# EAGLE library part HEADER-8P (library Connector)
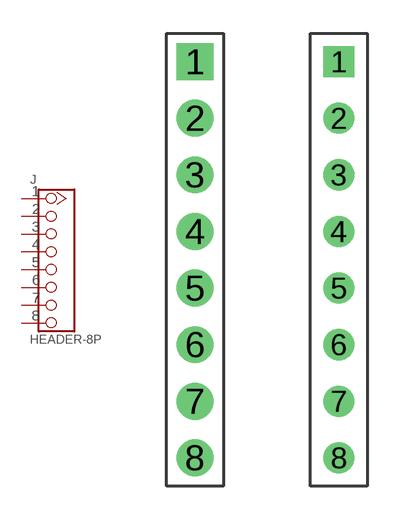
[diagram p14: symbol with the pads of 8P-2.54-DIP; footprints 8P-2.54-DIP, 8P-2.54-DIP/55-35]

Designator prefix J

## HEADER-8P-2.54-DIP  [8P-2.54-DIP]
1  1
2  2
3  3
4  4
5  5
6  6
7  7
8  8

## HEADER-8P-55/35MIL  [8P-2.54-DIP/55-35]
Pads as for 8P-2.54-DIP

## HEADER-8P-80/40MIL  [8P-2.54-DIP-80/40MIL]
Pads as for 8P-2.54-DIP

## HEADER-8P-2.54-SMD  [8P-2.54-SMD]
Pads as for 8P-2.54-DIP

## HEADER-8P-F90  [8P-2.54-FEMALE-90-DIP]
Pads as for 8P-2.54-DIP

## HEADER-8P-M90  [8P-2.54-MALE-90-DIP]
Pads as for 8P-2.54-DIP

## Footprint 8P-2.54-DIP (pad centres in mm)
drill 0.889 pad 1.651 square: 1 0,8.89
drill 0.889 pad 1.651 round: 2 0,6.35; 3 0,3.81; 4 0,1.27; 5 0,-1.27; 6 0,-3.81; 7 0,-6.35; 8 0,-8.89

## Footprint 8P-2.54-DIP/55-35 (pad centres in mm)
drill 0.889 pad 1.397 square: 1 0,8.89
drill 0.889 pad 1.397 round: 2 0,6.35; 3 0,3.81; 4 0,1.27; 5 0,-1.27; 6 0,-3.81; 7 0,-6.35; 8 0,-8.89

## Footprint 8P-2.54-DIP-80/40MIL (pad centres in mm)
drill 1.016 pad 2.032 square: 1 0,8.89
drill 1.016 pad 2.032 round: 2 0,6.35; 3 0,3.81; 4 0,1.27; 5 0,-1.27; 6 0,-3.81; 7 0,-6.35; 8 0,-8.89

## Footprint 8P-2.54-SMD (pad centres in mm)
smd 3.048 x 1.524: 1 -1.27,8.89; 2 1.27,6.35; 3 -1.27,3.81; 4 1.27,1.27; 5 -1.27,-1.27; 6 1.27,-3.81; 7 -1.27,-6.35; 8 1.27,-8.89

## Footprint 8P-2.54-FEMALE-90-DIP (pad centres in mm)
drill 0.889 pad 1.651 square: 1 0,8.89
drill 0.889 pad 1.651 round: 2 0,6.35; 3 0,3.81; 4 0,1.27; 5 0,-1.27; 6 0,-3.81; 7 0,-6.35; 8 0,-8.89

## Footprint 8P-2.54-MALE-90-DIP (pad centres in mm)
drill 0.889 pad 1.651 square: 1 0,8.89
drill 0.889 pad 1.651 round: 2 0,6.35; 3 0,3.81; 4 0,1.27; 5 0,-1.27; 6 0,-3.81; 7 0,-6.35; 8 0,-8.89